# Altium footprint library Voltage Regulator.PcbLib: 19 footprints (part 1 of 2)
Each footprint in its own frame and in the unit in brackets; x right, y up, seen from the top. Pads: shape width x height; smd on the part's side, far side on the other; paste and mask are expansions set on the pad; w line width, h text height; cw(c..) or ccw(c..) is an arc to the next point about the centre after c.
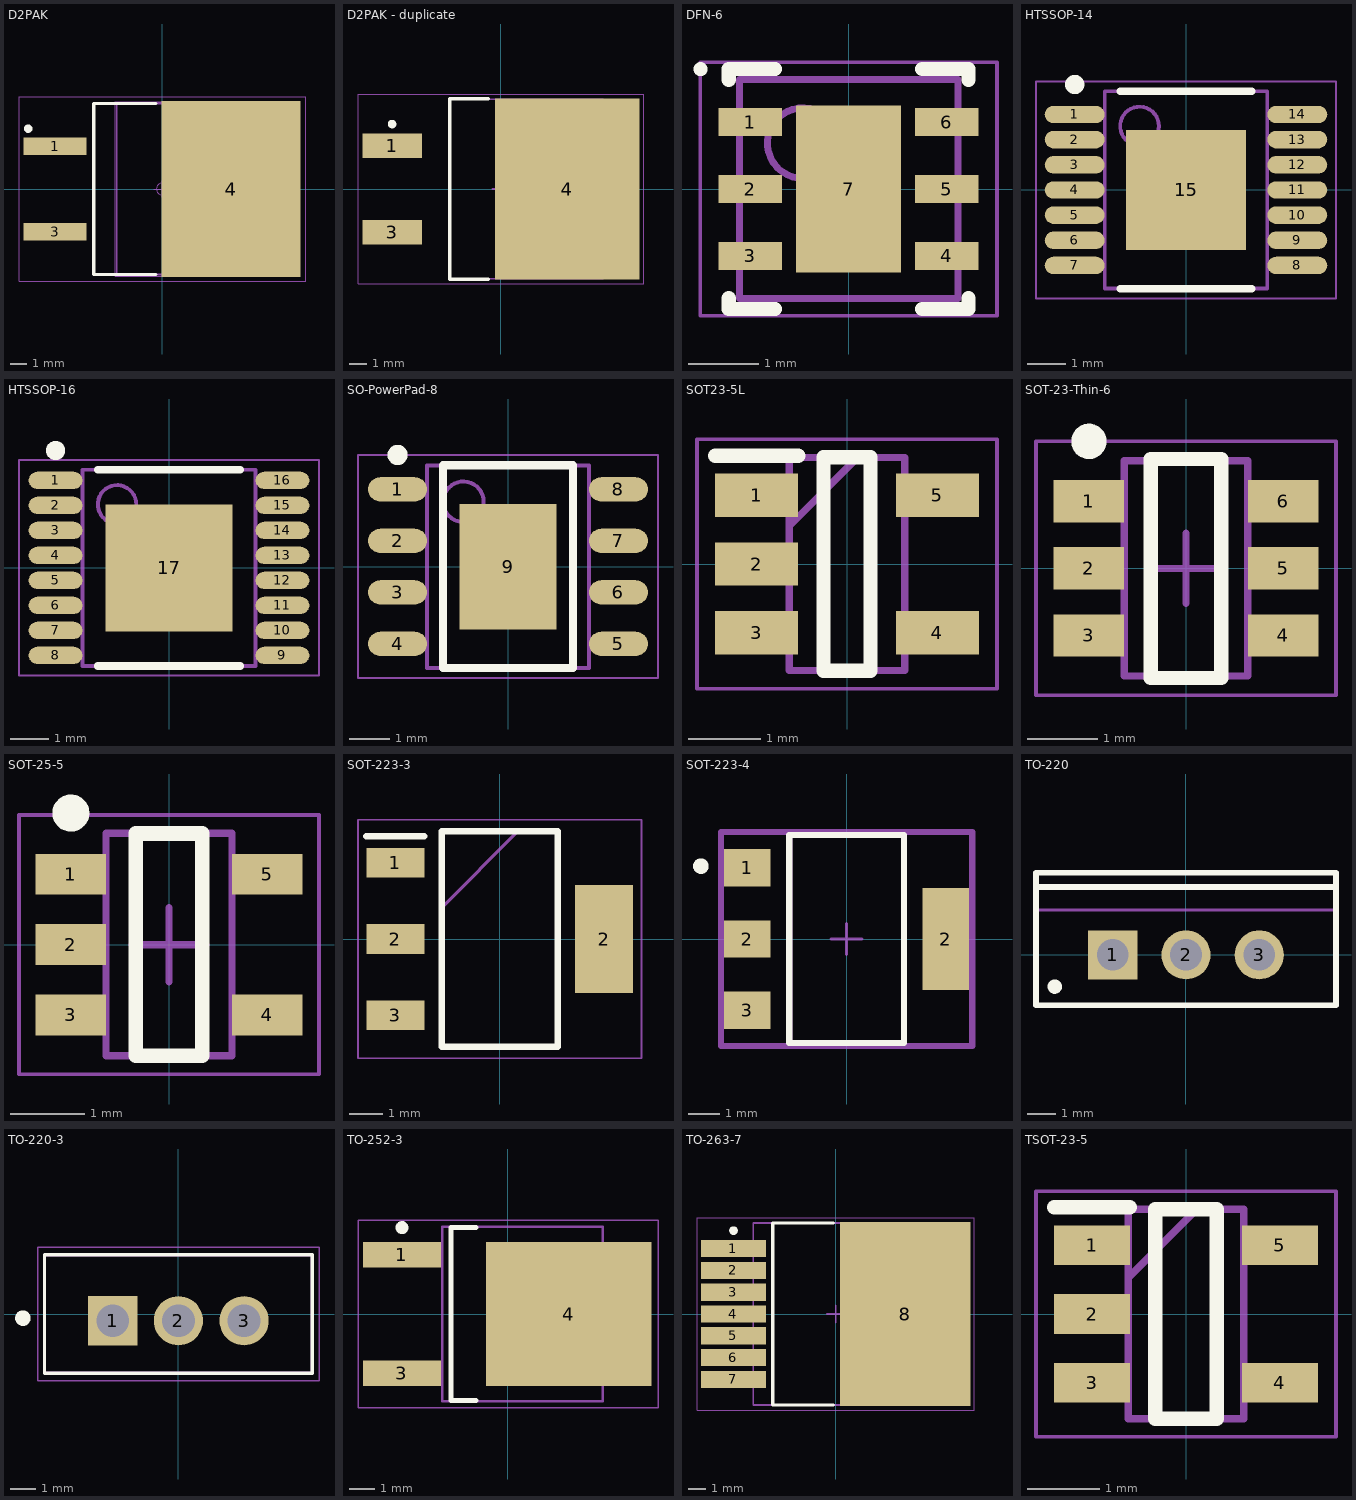
[diagram p0: the footprints below, top view; thin cyan lines are the x and y axes]

## D2PAK [mm]
pads (3):
  rect 3.75x1.05 smd: 1(-6.4,2.54) 3(-6.4,-2.54)
  rect 8.3x10.5 smd: 4(4.1,0)
Top Overlay:
  circle w0.25: c-8,3.6 r0.125
  lines w0.2: -0.4,-5.1 -4.1,-5.1 -4.1,5.1 -0.4,5.1
Mechanical 13:
  lines w0.1: 6.442,-5.1 -2.708,-5.1 -2.708,5.1 6.442,5.1 ; 6.442,-5.1 6.442,5.1 ; 6.442,-5.1 6.861,-5.1 7.712,-4.157 7.712,4.157 6.861,5.1 6.442,5.1
Mechanical 15:
  circle w0.05: c0,0 r0.35
  lines w0.001: -2.808,-5.2 6.542,-5.2 6.542,5.2 -2.808,5.2 -2.808,-5.2
  lines w0.05: -0.5,0 0.5,0 ; 0,-0.5 0,0.5 ; -8.55,-5.5 8.55,-5.5 8.55,5.5 -8.55,5.5 -8.55,-5.5

## D2PAK - duplicate [mm] "D2-PAK, 3-Pads, Body 7,60x8,64mm (max), IPC Medium Density"
height 4.56
pads (3):
  rect 3.5x1.45 smd: 1(-6.4,2.54) 3(-6.4,-2.54)
  rect 8.5x10.65 smd: 4(3.9,0)
Top Overlay:
  circle w0.25: c-6.4,3.815 r0.125
  lines w0.2: -0.75,-5.3 -3,-5.3 -3,5.3 -0.75,5.3
Mechanical 13:
  lines w0.1: -3,-5.275 6,-5.275 6,5.275 -3,5.275 -3,-5.275
Mechanical 15:
  lines w0.05: -8.4,-5.575 8.4,-5.575 8.4,5.575 -8.4,5.575 -8.4,-5.575
  lines w0.1: -0.5,0 0.5,0 ; 0,-0.5 0,0.5
3D body "DPAK254P1530X456-3N.step": height 4.81, standoff 0, extent -7.406,-5.275 7.894,5.275

## DFN-6 [mm] "SON, 6-Leads, Body 3,00x3,00mm, Pitch 0,95mm, Thermal Pad 2,37x1,49mm, IPC Medium Density"
height 1
pads (7):
  rect 0.9x0.4 smd: 1(-1.395,0.95) 2(-1.395,0) 3(-1.395,-0.95) 4(1.395,-0.95) 5(1.395,0) 6(1.395,0.95)
  rect 1.49x2.37 smd: 7(0,0)
Top Overlay:
  circle w0.1: c-2.1,1.7 r0.05
  lines w0.2: -1.7,-1.55 -1.7,-1.7 -1.045,-1.7 ; -1.7,1.55 -1.7,1.7 -1.045,1.7 ; 1.045,-1.7 1.7,-1.7 1.7,-1.55 ; 1.045,1.7 1.7,1.7 1.7,1.55
Mechanical 13:
  circle w0.1: c-0.65,0.65 r0.5
  lines w0.1: -1.55,-1.55 1.55,-1.55 1.55,1.55 -1.55,1.55 -1.55,-1.55
Mechanical 15:
  lines w0.05: -2.105,-1.8 2.105,-1.8 2.105,1.8 -2.105,1.8 -2.105,-1.8
  lines w0.1: -0.5,0 0.5,0 ; 0,-0.5 0,0.5
3D body "SON95P300X100_HS-7N.step": height 1, standoff 0, extent -1.6,-1.55 1.6,1.55

## HTSSOP-14 [mm] "TSOP, 14-Leads, Body 5,00x4,16mm, Pitch 0,65mm, Thermal Pad 3,10x3,10mm, IPC Medium Density"
height 1.1
pads (15):
  oval 1.55x0.45 smd: 1(-2.875,1.95) 2(-2.875,1.3) 3(-2.875,0.65) 4(-2.875,0) 5(-2.875,-0.65) 6(-2.875,-1.3) 7(-2.875,-1.95) 8(2.875,-1.95) 9(2.875,-1.3) 10(2.875,-0.65) 11(2.875,0) 12(2.875,0.65) 13(2.875,1.3) 14(2.875,1.95)
  rect 3.1x3.1 smd: 15(0,0)
Top Overlay:
  circle w0.25: c-2.875,2.725 r0.125
  lines w0.2: -1.7,-2.55 1.7,-2.55 ; -1.7,2.55 1.7,2.55
Mechanical 13:
  circle w0.1: c-1.2,1.65 r0.5
  lines w0.1: -2.1,-2.55 2.1,-2.55 2.1,2.55 -2.1,2.55 -2.1,-2.55
Mechanical 15:
  lines w0.05: -3.875,-2.8 3.875,-2.8 3.875,2.8 -3.875,2.8 -3.875,-2.8
  lines w0.1: -0.5,0 0.5,0 ; 0,-0.5 0,0.5
3D body "TSOP65P640X110_HS-15N.step": height 1.1, standoff 0, extent -3.2,-2.55 3.2,2.55

## HTSSOP-16 [mm] "TSOP, 16-Leads, Body 5,00x4,40mm, Pitch 0,65mm, Thermal Pad 3,30x3,30mm, IPC Medium Density"
height 1.2
pads (17):
  oval 1.4x0.45 smd: 1(-2.95,2.275) 2(-2.95,1.625) 3(-2.95,0.975) 4(-2.95,0.325) 5(-2.95,-0.325) 6(-2.95,-0.975) 7(-2.95,-1.625) 8(-2.95,-2.275) 9(2.95,-2.275) 10(2.95,-1.625) 11(2.95,-0.975) 12(2.95,-0.325) 13(2.95,0.325) 14(2.95,0.975) 15(2.95,1.625) 16(2.95,2.275)
  rect 3.3x3.3 smd: 17(0,0)
Top Overlay:
  circle w0.25: c-2.95,3.05 r0.125
  lines w0.2: -1.85,-2.55 1.85,-2.55 ; -1.85,2.55 1.85,2.55
Mechanical 13:
  circle w0.1: c-1.35,1.65 r0.5
  lines w0.1: -2.25,-2.55 -2.25,2.55 2.25,2.55 2.25,-2.55 -2.25,-2.55
Mechanical 15:
  lines w0.05: -3.9,-2.8 -3.9,2.8 3.9,2.8 3.9,-2.8 -3.9,-2.8
  lines w0.1: -0.5,0 0.5,0 ; 0,-0.5 0,0.5
3D body "TSOP65P640X120_HS-17N.step": height 1.2, standoff 0, extent -3.2,-2.55 3.2,2.55

## SO-PowerPad-8 [mm] "SOIC, 8-Leads, Body 4,90x3,90mm, Pitch 1,27mm, Thermal Pad 3,10x2,40mm, IPC Medium Density"
height 1.7
pads (9):
  oval 1.45x0.6 smd: 1(-2.725,1.905) 2(-2.725,0.635) 3(-2.725,-0.635) 4(-2.725,-1.905) 5(2.725,-1.905) 6(2.725,-0.635) 7(2.725,0.635) 8(2.725,1.905)
  rect 2.4x3.1 smd: 9(0,0)
Top Overlay:
  circle w0.25: c-2.725,2.755 r0.125
  lines w0.2: -1.6,-2.5 1.6,-2.5 1.6,2.5 -1.6,2.5 -1.6,-2.5
Mechanical 13:
  circle w0.1: c-1.1,1.6 r0.5
  lines w0.1: -2,-2.5 2,-2.5 2,2.5 -2,2.5 -2,-2.5
Mechanical 15:
  lines w0.05: -3.7,-2.75 3.7,-2.75 3.7,2.75 -3.7,2.75 -3.7,-2.75
  lines w0.1: -0.5,0 0.5,0 ; 0,-0.5 0,0.5
3D body "SOIC127P600X170_HS-9N.step": height 1.7, standoff 0, extent -3,-2.5 3,2.5

## SOT23-5L [mm]
pads (5):
  rect 1.15x0.6 smd: 1(-1.25,0.95) 2(-1.25,0) 3(-1.25,-0.95) 4(1.25,-0.95) 5(1.25,0.95)
Top Overlay:
  lines w0.2: -1.825,1.5 -0.675,1.5 ; -0.325,-1.475 0.325,-1.475 0.325,1.475 -0.325,1.475 -0.325,-1.475
Mechanical 13:
  lines w0.1: -0.8,0.525 0.15,1.475 ; -0.8,-1.475 0.8,-1.475 0.8,1.475 -0.8,1.475 -0.8,-1.475
Mechanical 15:
  lines w0.05: -2.075,-1.725 2.075,-1.725 2.075,1.725 -2.075,1.725 -2.075,-1.725
3D body "ST730MR.stp": height 1.45, standoff 0, extent -1.4,-1.475 1.4,1.475

## SOT-23-Thin-6 [mm] "SOT23, 6-Leads, Body 2,90x2,80mm, Pitch 0,95mm, IPC Medium Density"
height 1.1
pads (6):
  rect 1x0.6 smd: 1(-1.375,0.95) 2(-1.375,0) 3(-1.375,-0.95) 4(1.375,-0.95) 5(1.375,0) 6(1.375,0.95)
Top Overlay:
  circle w0.25: c-1.375,1.8 r0.125
  lines w0.2: -0.5,-1.55 -0.5,1.55 0.5,1.55 0.5,-1.55 -0.5,-1.55
Mechanical 13:
  lines w0.1: -0.875,-1.525 0.875,-1.525 0.875,1.525 -0.875,1.525 -0.875,-1.525
Mechanical 15:
  lines w0.05: -2.125,-1.8 2.125,-1.8 2.125,1.8 -2.125,1.8 -2.125,-1.8
  lines w0.1: -0.5,0 0.5,0 ; 0,-0.5 0,0.5
3D body "SOT95P280X110-6N.step": height 1.1, standoff 0, extent -1.525,-1.525 1.525,1.525

## SOT-25-5 [mm] "SOT23, 5-Leads, Body 2,95x2,75mm, Pitch 0,95mm, IPC Medium Density"
height 1
pads (5):
  rect 0.95x0.55 smd: 1(-1.325,0.95) 2(-1.325,0) 3(-1.325,-0.95) 4(1.325,-0.95) 5(1.325,0.95)
Top Overlay:
  circle w0.25: c-1.325,1.775 r0.125
  lines w0.2: -0.45,-1.5 -0.45,1.5 0.45,1.5 0.45,-1.5 -0.45,-1.5
Mechanical 13:
  lines w0.1: -0.85,-1.5 0.85,-1.5 0.85,1.5 -0.85,1.5 -0.85,-1.5
Mechanical 15:
  lines w0.05: -2.025,-1.75 2.025,-1.75 2.025,1.75 -2.025,1.75 -2.025,-1.75
  lines w0.1: -0.5,0 0.5,0 ; 0,-0.5 0,0.5
3D body "SOT95P275X100-5N.step": height 1, standoff 0, extent -1.4,-1.5 1.4,1.5

## SOT-223-3 [mm]
pads (4):
  rect 1.75x0.9 smd: 1(-3.15,2.3) 2(-3.15,0) 3(-3.15,-2.3)
  rect 1.75x3.25 smd: 2(3.15,0)
Top Overlay:
  lines w0.2: -4.025,3.1 -2.275,3.1 ; -1.75,-3.25 -1.75,3.25 1.75,3.25 1.75,-3.25 -1.75,-3.25
Mechanical 13:
  lines w0.1: -1.75,0.95 0.55,3.25 ; -1.75,-3.25 -1.75,3.25 1.75,3.25 1.75,-3.25 -1.75,-3.25
Mechanical 15:
  lines w0.05: -4.275,-3.6 -4.275,3.6 4.275,3.6 4.275,-3.6 -4.275,-3.6
3D body "AP1117E50G-13.stp": height 1.8, standoff 0, extent -3.5,-3.25 3.5,3.25

## SOT-223-4 [mm]
pads (4):
  rect 1.5x1.2 smd paste+0 mask+0: 1(-3.2,2.3) 2(-3.2,0) 3(-3.2,-2.3)
  rect 1.5x3.3 smd paste+0 mask+0: 2(3.2,0)
Top Overlay:
  circle w0.25: c-4.7,2.35 r0.125
  lines w0.2: -1.85,-3.35 -1.85,3.35 1.85,3.35 1.85,-3.35 -1.85,-3.35
Mechanical 5:
  lines w0.2: -4.05,-3.45 -4.05,3.45 4.05,3.45 4.05,-3.45 -4.05,-3.45
  text ".Designator" at 0,0.188 h1
Mechanical 13:
  lines w0.2: -1.85,-3.35 -1.85,3.35 1.85,3.35 1.85,-3.35 -1.85,-3.35
Mechanical 15:
  lines w0.2: -4.05,-3.45 -4.05,3.45 4.05,3.45 4.05,-3.45 -4.05,-3.45
Mechanical 16:
  lines w0.1: -0.5,0 0.5,0 ; 0,-0.5 0,0.5
3D body "IC_STMicroelectronics_LDL1117S50R_eec.STEP": height 0.25, standoff 0, extent -4.05,-3.45 4.05,3.45

## TO-220 [mm] "TO, Thru-Hole, Vertical, Heatsink Mounted; 3 In-Line Leads; Pitch 2.54 mm"
height 19.7
pads (3):
  rect 1.7x1.7 hole 1.1: 1(-2.54,0)
  round 1.7 hole 1.1: 2(0,0) 3(2.54,0)
Top Overlay:
  circle w0.25: c-4.55,-1.1 r0.125
  lines w0.2: -5.2,2.35 5.2,2.35 ; -5.2,-1.75 -5.2,2.85 5.2,2.85 5.2,-1.75 -5.2,-1.75
Mechanical 13:
  lines w0.1: -5.2,1.55 5.2,1.55 ; -5.2,-1.75 5.2,-1.75 5.2,2.85 -5.2,2.85 -5.2,-1.75
Mechanical 15:
  lines w0.1: -0.5,0 0.5,0 ; 0,-0.5 0,0.5
3D body: height 19.7, standoff 13.05, extent -5.199,1.551 5.199,2.849
3D body: height 13.05, standoff 3.5, extent -5.25,-1.8 5.25,2.9

## TO-220-3 [mm]
pads (3):
  rect 1.91x1.91 hole 1.27: 1(-2.55,-0.26)
  round 1.91 hole 1.27: 2(0,-0.26) 3(2.55,-0.26)
Top Overlay:
  circle w0.3: c-6.04,-0.16 r0.15
  lines w0.127: -5.2,-2.3 -5.2,2.3 5.2,2.3 5.2,-2.3 -5.2,-2.3
Mechanical 13:
  circle w0.3: c-2.53,-0.16 r0.15
  lines w0.127: -5.2,-2.3 5.2,-2.3 5.2,2.3 -5.2,2.3 -5.2,-2.3
Mechanical 15:
  lines w0.05: -5.46,-2.6 5.46,-2.6 5.46,2.6 -5.46,2.6 -5.46,-2.6
3D body "L7812CV.STEP": height 9.83, standoff -19.07, extent -4.973,-3.175 5.227,1.425

## TO-252-3 [mm] "D-PAK, 3-Pads, Body 6,21x6,73mm (max), IPC Medium Density"
height 2.38
pads (3):
  rect 3x1 smd: 1(-4.1,2.29) 3(-4.1,-2.29)
  rect 6.4x5.55 smd: 4(2.35,0)
Top Overlay:
  circle w0.25: c-4.1,3.34 r0.125
  lines w0.2: -1.25,-3.35 -2.2,-3.35 -2.2,3.35 -1.25,3.35
Mechanical 13:
  lines w0.1: -2.55,-3.375 -2.55,3.375 3.67,3.375 3.67,-3.375 -2.55,-3.375
Mechanical 15:
  lines w0.05: -5.8,-3.625 -5.8,3.625 5.8,3.625 5.8,-3.625 -5.8,-3.625
  lines w0.1: -0.5,0 0.5,0 ; 0,-0.5 0,0.5
3D body "DPAK229P991X238-3N.step": height 2.99, standoff 0, extent -4.6,-3.375 5.305,3.375

## TO-263-7 [mm] "D2-PAK, 8-Pads, Body 8,51x8,66mm (max), IPC Medium Density"
height 4.64
pads (8):
  rect 3.8x1 smd: 1(-5.95,3.81) 2(-5.95,2.54) 3(-5.95,1.27) 4(-5.95,0) 5(-5.95,-1.27) 6(-5.95,-2.54) 7(-5.95,-3.81)
  rect 7.6x10.7 smd: 8(4.05,0)
Top Overlay:
  circle w0.25: c-5.95,4.86 r0.125
  lines w0.2: -0.15,-5.3 -3.65,-5.3 -3.65,5.3 -0.15,5.3
Mechanical 13:
  lines w0.1: -4.8,-5.3 6.01,-5.3 6.01,5.3 -4.8,5.3 -4.8,-5.3
Mechanical 15:
  lines w0.05: -8.075,-5.6 8.075,-5.6 8.075,5.6 -8.075,5.6 -8.075,-5.6
  lines w0.1: -0.5,0 0.5,0 ; 0,-0.5 0,0.5
3D body "DPAK127P1463X464-8N.step": height 4.79, standoff 0, extent -6.963,-5.3 7.67,5.3

## TSOT-23-5 [mm]
pads (5):
  rect 1.05x0.55 smd: 1(-1.3,0.95) 2(-1.3,0) 3(-1.3,-0.95) 4(1.3,-0.95) 5(1.3,0.95)
Top Overlay:
  lines w0.2: -1.825,1.475 -0.775,1.475 ; -0.425,-1.45 0.425,-1.45 0.425,1.45 -0.425,1.45 -0.425,-1.45
Mechanical 13:
  lines w0.1: -0.8,0.5 0.15,1.45 ; -0.8,-1.45 0.8,-1.45 0.8,1.45 -0.8,1.45 -0.8,-1.45
Mechanical 15:
  lines w0.05: -2.075,-1.7 2.075,-1.7 2.075,1.7 -2.075,1.7 -2.075,-1.7
3D body "NCP718ASN500T1G.stp": height 1, standoff 0, extent -1.4,-1.45 1.4,1.45